# Altium schematic symbol library TPS54331DR.Schlib: 1 symbol
Pins are listed as number, name and electrical type; pins without a type are passive.

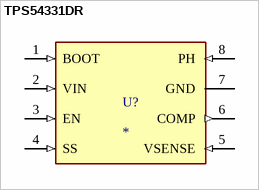
[diagram p0: symbol TPS54331DR]

## TPS54331DR
designator U?
28V 3A SOIC-8_150mil DC-DC Converters RoHS; MP: TPS54331DR; MF: {'manufacturer': u'Texas Instruments'}; Price: None; Availability: Unavailable; Value: *; Package: None; ComponentLink1Description: LCSC - Texas Instruments TPS54331DR; ComponentLink1URL: https://lcsc.com/product-detail/DC-DC-Converters_TI_TPS54331DR_TPS54331DR_C9865.html/?href=jlc-SMT; LCSC Part #: C9865; JLCPCB Part Type: Basic
footprint SOIC127P600X175-8N
pins: 1 BOOT (in), 2 VIN (in), 3 EN (in), 4 SS (in), 5 VSENSE (in), 6 COMP (out), 7 GND (power), 8 PH (in)